# Altium footprint library WCAP-FTXX.PcbLib: 72 footprints (part 3 of 5)
Each footprint in its own frame and in the unit in brackets; x right, y up, seen from the top. Pads: shape width x height; smd on the part's side, far side on the other; paste and mask are expansions set on the pad; w line width, h text height; cw(c..) or ccw(c..) is an arc to the next point about the centre after c.
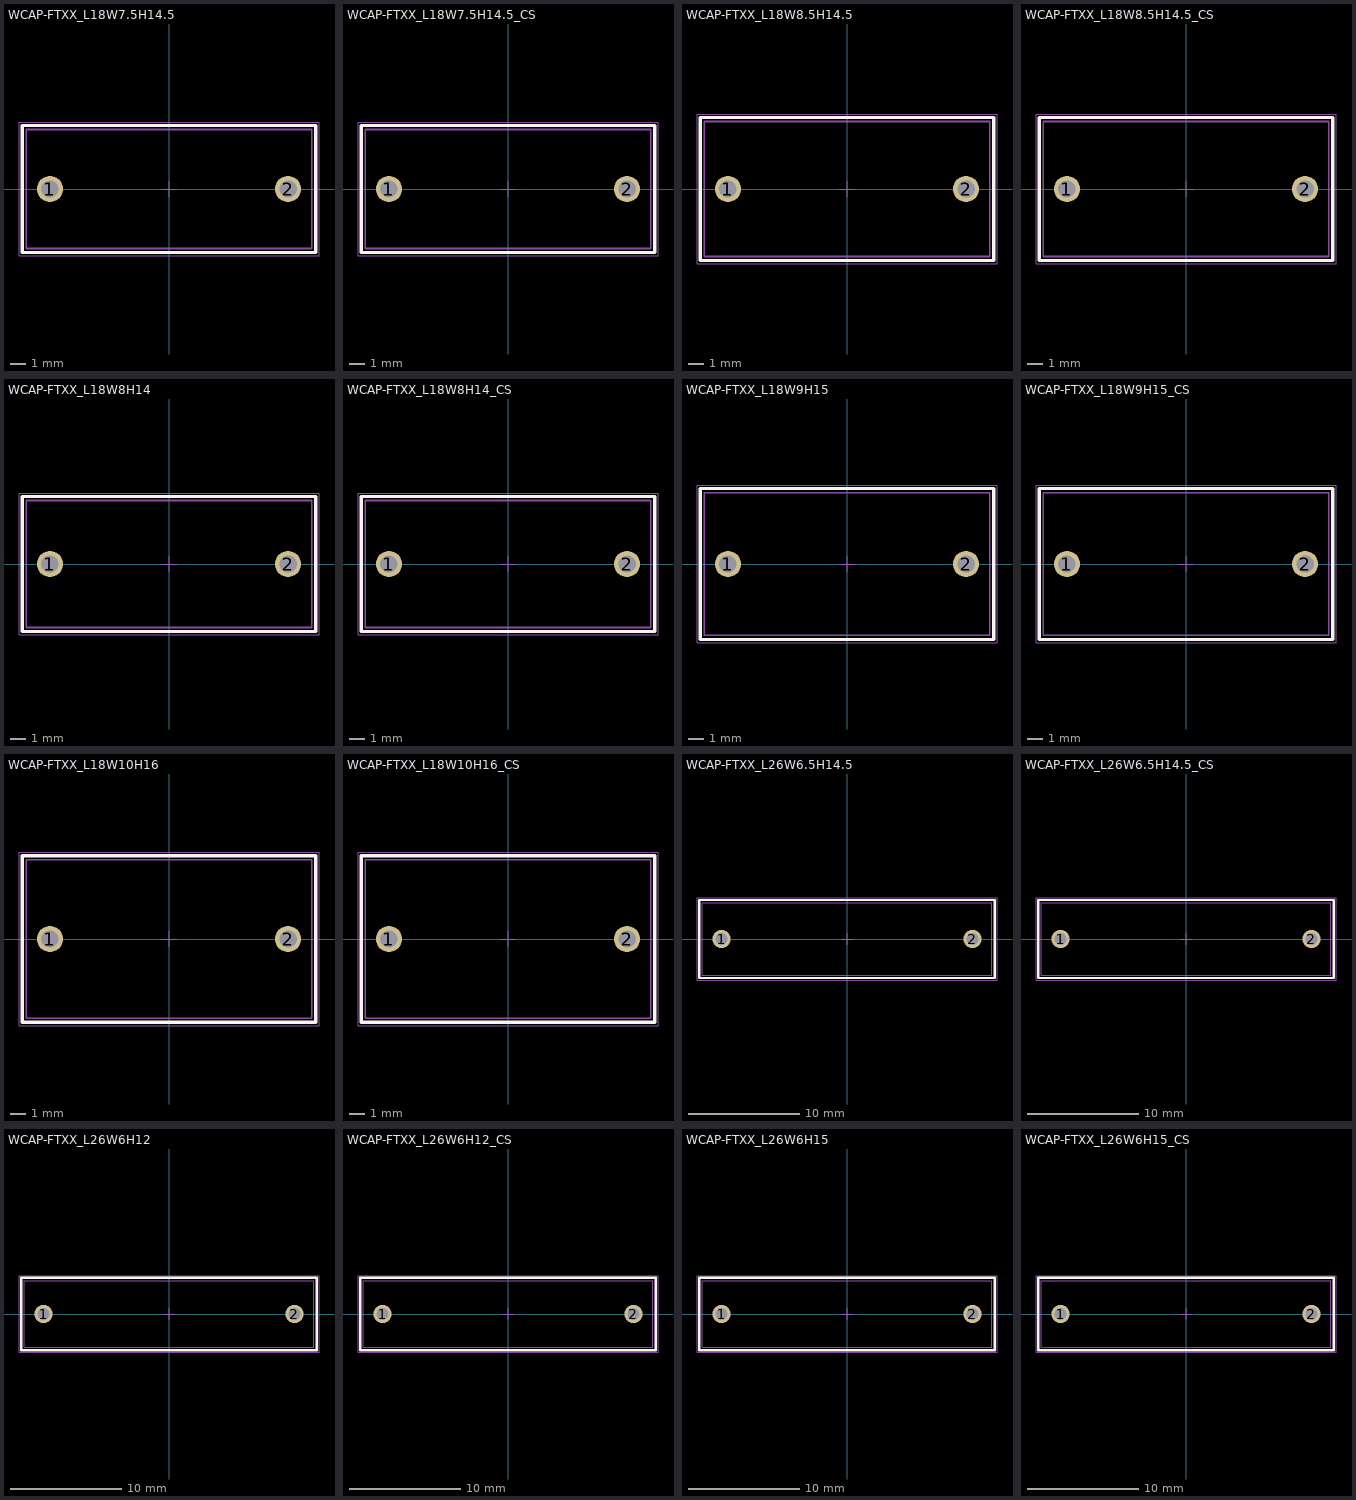
[diagram p2: the footprints below, top view; thin cyan lines are the x and y axes]

## WCAP-FTXX_L18W7.5H14.5 [mm] "Film Capacitors, 18x7.5x14.5mm"
height 14.5
pads (2):
  round 1.65 hole 1.1: 1(-7.5,0) 2(7.5,0)
Top Overlay:
  lines w0.2: -9.25,-4 -9.25,4 9.25,4 9.25,-4 -9.25,-4
Top Designator:
  text ".Designator" at -7.498,-0.5 h1.5
Top Component Outline:
  lines w0.1: -9,-3.75 -9,3.75 9,3.75 9,-3.75 -9,-3.75
Top Courtyard:
  lines w0.05: -9.45,-4.2 -9.45,4.2 9.45,4.2 9.45,-4.2 -9.45,-4.2
Top Component Center:
  lines w0.05: -0.5,0 0.5,0 ; 0,-0.5 0,0.5
3D body "15x18x14,5x7,5.stp": height 14.55, standoff -19.95, extent -9,-3.75 9,3.75

## WCAP-FTXX_L18W7.5H14.5_CS [mm] "Film Capacitors, 18x7.5x14.5mm"
height 14.5
pads (2):
  round 1.65 hole 1.1: 1(-7.5,0) 2(7.5,0)
Top Overlay:
  lines w0.2: -9.25,-4 9.25,-4 9.25,4 -9.25,4 -9.25,-4
Top Designator:
  text ".Designator" at -7.498,-0.5 h1.5
Top Component Outline:
  lines w0.1: -9,-3.75 9,-3.75 9,3.75 -9,3.75 -9,-3.75
Top Courtyard:
  lines w0.05: -9.45,-4.2 9.45,-4.2 9.45,4.2 -9.45,4.2 -9.45,-4.2
Top Component Center:
  lines w0.05: -0.5,0 0.5,0 ; 0,-0.5 0,0.5
3D body "15x18x14,5x7,5_CS.stp": height 14.55, standoff -3.95, extent -9,-3.75 9,3.75

## WCAP-FTXX_L18W8.5H14.5 [mm] "Film Capacitors, 18x8.5x14.5mm"
height 14.5
pads (2):
  round 1.65 hole 1.1: 1(-7.5,0) 2(7.5,0)
Top Overlay:
  lines w0.2: -9.25,-4.5 9.25,-4.5 9.25,4.5 -9.25,4.5 -9.25,-4.5
Top Designator:
  text ".Designator" at -7.498,-0.5 h1.5
Top Component Outline:
  lines w0.1: -9,-4.25 9,-4.25 9,4.25 -9,4.25 -9,-4.25
Top Courtyard:
  lines w0.05: -9.45,-4.7 9.45,-4.7 9.45,4.7 -9.45,4.7 -9.45,-4.7
Top Component Center:
  lines w0.05: -0.5,0 0.5,0 ; 0,-0.5 0,0.5
3D body "15x18x14,5x8,5.stp": height 14.55, standoff -19.95, extent -9,-4.25 9,4.25

## WCAP-FTXX_L18W8.5H14.5_CS [mm] "Film Capacitors, 18x8.5x14.5mm"
height 14.5
pads (2):
  round 1.65 hole 1.1: 1(-7.5,0) 2(7.5,0)
Top Overlay:
  lines w0.2: -9.25,-4.5 -9.25,4.5 9.25,4.5 9.25,-4.5 -9.25,-4.5
Top Designator:
  text ".Designator" at -7.498,-0.5 h1.5
Top Component Outline:
  lines w0.1: -9,-4.25 -9,4.25 9,4.25 9,-4.25 -9,-4.25
Top Courtyard:
  lines w0.05: -9.45,-4.7 -9.45,4.7 9.45,4.7 9.45,-4.7 -9.45,-4.7
Top Component Center:
  lines w0.05: -0.5,0 0.5,0 ; 0,-0.5 0,0.5
3D body "15x18x14,5x8,5_CS.stp": height 14.55, standoff -3.95, extent -9,-4.25 9,4.25

## WCAP-FTXX_L18W8H14 [mm] "Film Capacitors, 18x8x14mm"
height 14
pads (2):
  round 1.65 hole 1.1: 1(-7.5,0) 2(7.5,0)
Top Overlay:
  lines w0.2: -9.25,-4.25 9.25,-4.25 9.25,4.25 -9.25,4.25 -9.25,-4.25
Top Designator:
  text ".Designator" at -7.498,-0.5 h1.5
Top Component Outline:
  lines w0.1: -9,-4 9,-4 9,4 -9,4 -9,-4
Top Courtyard:
  lines w0.05: -9.45,-4.45 9.45,-4.45 9.45,4.45 -9.45,4.45 -9.45,-4.45
Top Component Center:
  lines w0.05: -0.5,0 0.5,0 ; 0,-0.5 0,0.5
3D body "15x18x14x8.stp": height 14.05, standoff -19.95, extent -9,-4 9,4

## WCAP-FTXX_L18W8H14_CS [mm] "Film Capacitors, 18x8x14mm"
height 14
pads (2):
  round 1.65 hole 1.1: 1(-7.5,0) 2(7.5,0)
Top Overlay:
  lines w0.2: -9.25,-4.25 9.25,-4.25 9.25,4.25 -9.25,4.25 -9.25,-4.25
Top Designator:
  text ".Designator" at -7.498,-0.5 h1.5
Top Component Outline:
  lines w0.1: -9,-4 9,-4 9,4 -9,4 -9,-4
Top Courtyard:
  lines w0.05: -9.45,-4.45 9.45,-4.45 9.45,4.45 -9.45,4.45 -9.45,-4.45
Top Component Center:
  lines w0.05: -0.5,0 0.5,0 ; 0,-0.5 0,0.5
3D body "15x18x14x8_CS.stp": height 14.05, standoff -3.95, extent -9,-4 9,4

## WCAP-FTXX_L18W9H15 [mm] "Film Capacitors, 18x9x15mm"
height 15
pads (2):
  round 1.65 hole 1.1: 1(-7.5,0) 2(7.5,0)
Top Overlay:
  lines w0.2: -9.25,-4.75 -9.25,4.75 9.25,4.75 9.25,-4.75 -9.25,-4.75
Top Designator:
  text ".Designator" at -7.498,-0.5 h1.5
Top Component Outline:
  lines w0.1: -9,-4.5 9,-4.5 9,4.5 -9,4.5 -9,-4.5
Top Courtyard:
  lines w0.05: -9.45,-4.95 -9.45,4.95 9.45,4.95 9.45,-4.95 -9.45,-4.95
Top Component Center:
  lines w0.05: -0.5,0 0.5,0 ; 0,-0.5 0,0.5
3D body "15x18x15x9.stp": height 15.05, standoff -19.95, extent -9,-4.5 9,4.5

## WCAP-FTXX_L18W9H15_CS [mm] "Film Capacitors, 18x9x15mm"
height 15
pads (2):
  round 1.65 hole 1.1: 1(-7.5,0) 2(7.5,0)
Top Overlay:
  lines w0.2: -9.25,-4.75 -9.25,4.75 9.25,4.75 9.25,-4.75 -9.25,-4.75
Top Designator:
  text ".Designator" at -7.498,-0.5 h1.5
Top Component Outline:
  lines w0.1: -9,-4.5 9,-4.5 9,4.5 -9,4.5 -9,-4.5
Top Courtyard:
  lines w0.05: -9.45,-4.95 -9.45,4.95 9.45,4.95 9.45,-4.95 -9.45,-4.95
Top Component Center:
  lines w0.05: -0.5,0 0.5,0 ; 0,-0.5 0,0.5
3D body "15x18x15x9_CS.stp": height 15.05, standoff -3.95, extent -9,-4.5 9,4.5

## WCAP-FTXX_L18W10H16 [mm] "Film Capacitors, 18x10x16mm"
height 16
pads (2):
  round 1.65 hole 1.1: 1(-7.5,0) 2(7.5,0)
Top Overlay:
  lines w0.2: -9.25,-5.25 9.25,-5.25 9.25,5.25 -9.25,5.25 -9.25,-5.25
Top Designator:
  text ".Designator" at -7.498,-0.5 h1.5
Top Component Outline:
  lines w0.1: -9,-5 9,-5 9,5 -9,5 -9,-5
Top Courtyard:
  lines w0.05: -9.45,-5.45 9.45,-5.45 9.45,5.45 -9.45,5.45 -9.45,-5.45
Top Component Center:
  lines w0.05: -0.5,0 0.5,0 ; 0,-0.5 0,0.5
3D body "15x18x16x10.stp": height 16.05, standoff -19.95, extent -9,-5 9,5

## WCAP-FTXX_L18W10H16_CS [mm] "Film Capacitors, 18x10x16mm"
height 16
pads (2):
  round 1.65 hole 1.1: 1(-7.5,0) 2(7.5,0)
Top Overlay:
  lines w0.2: -9.25,-5.25 9.25,-5.25 9.25,5.25 -9.25,5.25 -9.25,-5.25
Top Designator:
  text ".Designator" at -7.498,-0.5 h1.5
Top Component Outline:
  lines w0.1: -9,-5 9,-5 9,5 -9,5 -9,-5
Top Courtyard:
  lines w0.05: -9.45,-5.45 9.45,-5.45 9.45,5.45 -9.45,5.45 -9.45,-5.45
Top Component Center:
  lines w0.05: -0.5,0 0.5,0 ; 0,-0.5 0,0.5
3D body "15x18x16x10_CS.stp": height 16.05, standoff -3.95, extent -9,-5 9,5

## WCAP-FTXX_L26W6.5H14.5 [mm] "Film Capacitors, 26x6.5x14.5mm"
height 14.5
pads (2):
  round 1.65 hole 1.1: 1(-11.25,0) 2(11.25,0)
Top Overlay:
  lines w0.2: -13.25,-3.5 13.25,-3.5 13.25,3.5 -13.25,3.5 -13.25,-3.5
Top Designator:
  text ".Designator" at -7.498,-0.5 h1.5
Top Component Outline:
  lines w0.1: -13,-3.25 13,-3.25 13,3.25 -13,3.25 -13,-3.25
Top Courtyard:
  lines w0.05: -13.45,-3.7 13.45,-3.7 13.45,3.7 -13.45,3.7 -13.45,-3.7
Top Component Center:
  lines w0.05: -0.5,0 0.5,0 ; 0,-0.5 0,0.5
3D body "22,5x26x14,5x6,5.stp": height 14.55, standoff -19.95, extent -13,-3.25 13,3.25

## WCAP-FTXX_L26W6.5H14.5_CS [mm] "Film Capacitors, 26x6.5x14.5mm"
height 14.5
pads (2):
  round 1.65 hole 1.1: 1(-11.25,0) 2(11.25,0)
Top Overlay:
  lines w0.2: -13.25,-3.5 13.25,-3.5 13.25,3.5 -13.25,3.5 -13.25,-3.5
Top Designator:
  text ".Designator" at -7.498,-0.5 h1.5
Top Component Outline:
  lines w0.1: -13,-3.25 13,-3.25 13,3.25 -13,3.25 -13,-3.25
Top Courtyard:
  lines w0.05: -13.45,-3.7 13.45,-3.7 13.45,3.7 -13.45,3.7 -13.45,-3.7
Top Component Center:
  lines w0.05: -0.5,0 0.5,0 ; 0,-0.5 0,0.5
3D body "22,5x26x14,5x6,5_CS.stp": height 14.55, standoff -3.95, extent -13,-3.25 13,3.25

## WCAP-FTXX_L26W6H12 [mm] "Film Capacitors, 26x6x12mm"
height 12
pads (2):
  round 1.65 hole 1.1: 1(-11.25,0) 2(11.25,0)
Top Overlay:
  lines w0.2: -13.25,-3.25 13.25,-3.25 13.25,3.25 -13.25,3.25 -13.25,-3.25
Top Designator:
  text ".Designator" at -7.498,-0.5 h1.5
Top Component Outline:
  lines w0.1: -13,-3 13,-3 13,3 -13,3 -13,-3
Top Courtyard:
  lines w0.05: -13.45,-3.45 13.45,-3.45 13.45,3.45 -13.45,3.45 -13.45,-3.45
Top Component Center:
  lines w0.05: -0.5,0 0.5,0 ; 0,-0.5 0,0.5
3D body "22,5x26x12x6.stp": height 12.05, standoff -19.95, extent -13,-3 13,3

## WCAP-FTXX_L26W6H12_CS [mm] "Film Capacitors, 26x6x12mm"
height 12
pads (2):
  round 1.65 hole 1.1: 1(-11.25,0) 2(11.25,0)
Top Overlay:
  lines w0.2: -13.25,-3.25 13.25,-3.25 13.25,3.25 -13.25,3.25 -13.25,-3.25
Top Designator:
  text ".Designator" at -7.498,-0.5 h1.5
Top Component Outline:
  lines w0.1: -13,-3 13,-3 13,3 -13,3 -13,-3
Top Courtyard:
  lines w0.05: -13.45,-3.45 13.45,-3.45 13.45,3.45 -13.45,3.45 -13.45,-3.45
Top Component Center:
  lines w0.05: -0.5,0 0.5,0 ; 0,-0.5 0,0.5
3D body "22,5x26x12x6_CS.stp": height 12.05, standoff -3.95, extent -13,-3 13,3

## WCAP-FTXX_L26W6H15 [mm] "Film Capacitors, 26x6x15mm"
height 15
pads (2):
  round 1.65 hole 1.1: 1(-11.25,0) 2(11.25,0)
Top Overlay:
  lines w0.2: -13.25,-3.25 13.25,-3.25 13.25,3.25 -13.25,3.25 -13.25,-3.25
Top Designator:
  text ".Designator" at -7.498,-0.5 h1.5
Top Component Outline:
  lines w0.1: -13,-3 13,-3 13,3 -13,3 -13,-3
Top Courtyard:
  lines w0.05: -13.45,-3.45 13.45,-3.45 13.45,3.45 -13.45,3.45 -13.45,-3.45
Top Component Center:
  lines w0.05: -0.5,0 0.5,0 ; 0,-0.5 0,0.5
3D body "22,5x26x15x6.stp": height 15.05, standoff -19.95, extent -13,-3 13,3

## WCAP-FTXX_L26W6H15_CS [mm] "Film Capacitors, 26x6x15mm"
height 15
pads (2):
  round 1.65 hole 1.1: 1(-11.25,0) 2(11.25,0)
Top Overlay:
  lines w0.2: -13.25,-3.25 -13.25,3.25 13.25,3.25 13.25,-3.25 -13.25,-3.25
Top Designator:
  text ".Designator" at -7.498,-0.5 h1.5
Top Component Outline:
  lines w0.1: -13,-3 -13,3 13,3 13,-3 -13,-3
Top Courtyard:
  lines w0.05: -13.45,-3.45 -13.45,3.45 13.45,3.45 13.45,-3.45 -13.45,-3.45
Top Component Center:
  lines w0.05: -0.5,0 0.5,0 ; 0,-0.5 0,0.5
3D body "22,5x26x15x6_CS_3D.stp": height 15.05, standoff -3.95, extent -13,-3 13,3